# Altium schematic symbol library USB1130-15-A.SchLib: 1 symbol
Pins are listed as number, name and electrical type; pins without a type are passive.

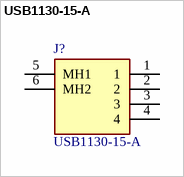
[diagram p0: symbol USB1130-15-A]

## USB1130-15-A
designator J?
USB Connectors USB A 2.0 Skt RA High Life 15u" T Hole W/Shell Stake T & R; Manufacturer_Name: GCT (GLOBAL CONNECTOR TECHNOLOGY); Geometry.Height: 7.24mm; Mouser Part Number: 640-USB1130-15-A; Mouser Price/Stock: https://www.mouser.co.uk/ProductDetail/GCT/USB1130-15-A?qs=KUoIvG%2F9IlbUm2WMV7vmzg%3D%3D; Manufacturer_Part_Number: USB1130-15-A; Datasheet Link: https://gct.co/files/drawings/usb1130.pdf?v=af75e0ab-3313-4c97-a925-9953a1c7de6b
footprint USB113015A
pins: 1, 2, 3, 4, 5 MH1, 6 MH2